# Altium schematic symbol library Fuse Thermal.SchLib: 1 symbol
Pins are listed as number, name and electrical type; pins without a type are passive.

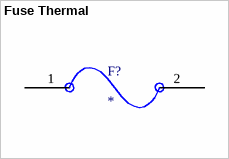
[diagram p0: symbol Fuse Thermal]

## Fuse Thermal
designator F?
Fuse, Resettable, Fast Acting, 10A, Sz 1206, 0.134x0.071x0.033", SMT, 24VDC, PCB | Bourns MF-NSMF200-2
footprint Fuse_thermal
pins: 1, 2